# Altium schematic symbol library prmaawjw470b00.SchLib: 1 symbol
Pins are listed as number, name and electrical type; pins without a type are passive.

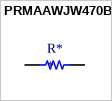
[diagram p0: symbol PRMAAWJW470B00]

## PRMAAWJW470B00
designator R*
https://www.tme.eu/pl/details/ax10wv-47r/rezystory-mocy/royal-ohm/prmaawjw470b00/
footprint prmaawjw470b00
pins: 1, 2